# Altium schematic symbol library C.SchLib: 38 symbols
Pins are listed as number, name and electrical type; pins without a type are passive.

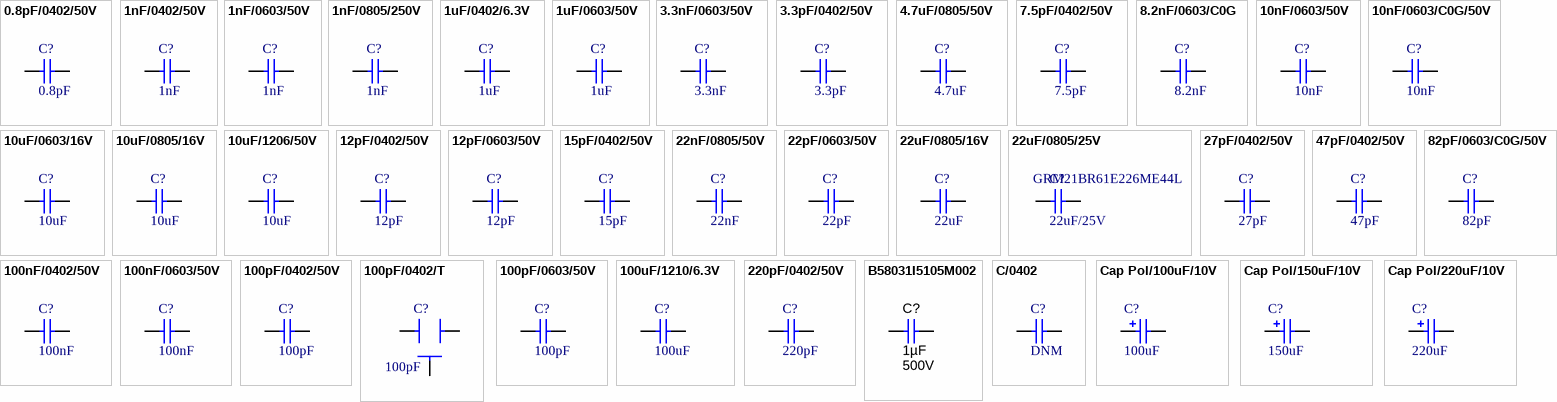
[diagram p0: symbols 0.8pF/0402/50V to Cap Pol/220uF/10V]

## 0.8pF/0402/50V
designator C?, comment 0.8pF
精度 ±0.1pF / 容值 0.8pF / 额定电压 50V / 温漂系数（介质材料) C0G; Manufacturer: FH(风华); A_Manufacturer: 元六; Code: 0402CG0R8B500NT; A_Code: J CC41Q-0402-BC-50V-0R8-B; CompType: Capacitor; A_ComType: 一类电容; DistributorCode: C285068; Package: 0402
footprint S0402C
pins: 1, 2

## 1nF/0402/50V
designator C?, comment 1nF
精度 ±5% / 容值 1nF / 额定电压 50V / 温漂系数（介质材料) C0G; Manufacturer: FH(风华); A_Manufacturer: 元六; Code: 0402CG102J500NT; A_Code: J CC41-0402-CG-50V-102J; CompType: Capacitor; A_ComType: 一类电容; DistributorCode: C53547; Package: 0402
footprint S0402C
pins: 1, 2

## 1nF/0603/50V
designator C?, comment 1nF
精度 ±5% / 容值 1nF / 额定电压 50V / 温漂系数（介质材料) C0G; Manufacturer: FH(风华); A_Manufacturer: 元六; Code: 0603CG102J500NT; A_Code: J CC41-0603-CG-50V-102J; CompType: Capacitor; DistributorCode: C1636; Package: 0603
footprint S0603C
pins: 1, 2

## 1nF/0805/250V
designator C?, comment 1nF
精度 ±10% / 容值 1nF / 额定电压 250V / 温漂系数（介质材料) X7R; Manufacturer: FH(风华); A_Manufacturer: 元六; Code: 0805B102K251NT; CompType: Capacitor; A_ComType: 二类电容; Package: 0805; DistributorCode: C285058
footprint S0603C
simulation model CAP (Capacitor)
signal-integrity model Cap
footprint S0805C
pins: 1, 2

## 1uF/0402/6.3V
designator C?, comment 1uF
精度 ±10% / 容值 1uF / 额定电压 6.3V / 温漂系数（介质材料) X5R /; Manufacturer: FH(风华); A_Manufacturer: 元六; Code: 0402X105K6R3NT; A_Code: J CT41-0402-2R2-6V3-105M; CompType: Capacitor; A_ComType: 二类电容; DistributorCode: C142376; Package: 0402
footprint S0402C
pins: 1, 2

## 1uF/0603/50V
designator C?, comment 1uF
精度 ±10% / 容值 1uF / 额定电压 50V / 温漂系数（介质材料) X7R; Manufacturer: FH(风华); A_Manufacturer: 元六; Code: 0603B105K500NT; A_Code: J CT41-0603-2R1-50V-105M; CompType: Capacitor; A_ComType: 二类电容; DistributorCode: C90540; Package: 0603
footprint S0402C
footprint S0603C
pins: 1, 2

## 3.3nF/0603/50V
designator C?, comment 3.3nF
精度 ±5% / 容值 3.3nF / 额定电压 50V / 温漂系数（介质材料) C0G; Manufacturer: FH(风华); A_Manufacturer: 元六; Code: 0603CG332J500NT; A_Code: J CC41-0603-CG-50V-332J; CompType: Capacitor; DistributorCode: C190576; Package: 0603
footprint S0603C
pins: 1, 2

## 3.3pF/0402/50V
designator C?, comment 3.3pF
精度 ±0.1pF / 容值 3.3pF / 额定电压 50V / 温漂系数（介质材料) C0G; Manufacturer: FH(风华); A_Manufacturer: 元六; Code: 0402CG3R3B500NT; A_Code: J CC41-0402-CG-50V-3R3C; CompType: Capacitor; A_ComType: 一类电容; DistributorCode: C285083; Package: 0402
footprint S0402C
pins: 1, 2

## 4.7uF/0805/50V
designator C?, comment 4.7uF
精度 ±20% / 容值 4.7uF / 额定电压 50V / 温漂系数（介质材料) Y5V /; Manufacturer: FH(风华); A_Manufacturer: 元六; Code: 0805F475M500NT; CompType: Capacitor; A_Code: J CT41-0805-2R2-50V-475M; A_ComType: 二类电容; Package: 0805; DistributorCode: C215908
footprint S0805C
simulation model CAP (Capacitor)
signal-integrity model Cap
pins: 1, 2

## 7.5pF/0402/50V
designator C?, comment 7.5pF
精度 ±0.25pF / 容值 7.5pF / 额定电压 50V / 温漂系数（介质材料) C0G; Manufacturer: FH(风华); A_Manufacturer: 元六; Code: 0402CG7R5C500NT; A_Code: J CC41Q-0402-BC-50V-7R5-C; CompType: Capacitor; A_ComType: 一类电容; DistributorCode: C43514; Package: 0402
footprint S0402C
pins: 1, 2

## 8.2nF/0603/C0G
designator C?, comment 8.2nF
精度 ±5% / 容值 8.2nF / 额定电压 50V / 温漂系数（介质材料) C0G; Manufacturer: TDK; A_Manufacturer: 元六; Code: C1608C0G1H822JT000N; A_Code: J CC41-0603-CG-50V-822J; CompType: Capacitor; DistributorCode: C445716; Package: 0603
footprint S0603C
pins: 1, 2

## 10nF/0603/50V
designator C?, comment 10nF
精度 ±10% / 容值 10nF / 额定电压 50V / 温漂系数（介质材料) X7R; Manufacturer: FH(风华); A_Manufacturer: 元六; Code: 0603B103K500NT; A_Code: J CT41-0603-2R1-50V-103K; CompType: Capacitor; A_ComType: 二类电容; Package: 0603; DistributorCode: C57112
footprint S0603C
pins: 1, 2

## 10nF/0603/C0G/50V
designator C?, comment 10nF
精度 ±5% / 容值 10nF / 额定电压 50V / 温漂系数（介质材料) C0G; Manufacturer: FH(风华); A_Manufacturer: 元六; Code: 0603CG103J500NT; A_Code: J CC41-0603-CG-50V-103J; CompType: Capacitor; DistributorCode: C82282; Package: 0603
footprint S0603C
pins: 1, 2

## 10uF/0603/16V
designator C?, comment 10uF
精度 ±10% / 容值 10uF / 额定电压 16V / 温漂系数（介质材料) X5R; Manufacturer: FH(风华); A_Manufacturer: 元六; Code: 0603X106K160NT; CompType: Capacitor; A_Code: J CT41-0603-2R2-16V-106M; A_ComType: 二类电容; Package: 0603; DistributorCode: C70225
footprint S0603C
simulation model CAP (Capacitor)
signal-integrity model Cap
pins: 1, 2

## 10uF/0805/16V
designator C?, comment 10uF
精度 ±10% / 容值 10uF / 额定电压 16V / 温漂系数（介质材料) X7R; Manufacturer: FH(风华); A_Manufacturer: 元六; Code: 0805B106K160NT; CompType: Capacitor; A_Code: J CT41-0805-2R2-16V-106M; A_ComType: 二类电容; Package: 0805; DistributorCode: C92341
footprint S0603C
simulation model CAP (Capacitor)
signal-integrity model Cap
footprint S0805C
pins: 1, 2

## 10uF/1206/50V
designator C?, comment 10uF
精度 ±10% / 容值 10uF / 额定电压 50V / 温漂系数（介质材料) X5R; Manufacturer: SAMSUNG(三星); A_Manufacturer: 元六; Code: CL31A106KBHNNNE; CompType: Capacitor; A_ComType: 二类电容; Package: 1206; DistributorCode: C13585; A_Code: -
footprint S0603C
simulation model CAP (Capacitor)
signal-integrity model Cap
pins: 1, 2

## 12pF/0402/50V
designator C?, comment 12pF
精度 ±1% / 容值 12pF / 额定电压 50V / 温漂系数（介质材料) C0G; Manufacturer: FH(风华); A_Manufacturer: 元六; Code: 0402CG120F500NT; A_Code: J CC41-0402-CG-50V-120J; CompType: Capacitor; A_ComType: 一类电容; DistributorCode: C182477; Package: 0402
footprint S0402C
pins: 1, 2

## 12pF/0603/50V
designator C?, comment 12pF
精度 ±5% / 容值 12pF / 额定电压 50V / 温漂系数（介质材料) C0G; Manufacturer: FH(风华); A_Manufacturer: 元六; Code: 0603CG120J500NT; A_Code: J CC41-0603-CG-50V-120J; CompType: Capacitor; A_ComType: 一类电容; DistributorCode: C1642; Package: 0603
footprint S0603C
pins: 1, 2

## 15pF/0402/50V
designator C?, comment 15pF
精度 ±1% / 容值 15pF / 额定电压 50V / 温漂系数（介质材料) C0G; Manufacturer: FH(风华); A_Manufacturer: 元六; Code: 0402CG150F500NT; A_Code: J CC41-0402-CG-50V-150J; CompType: Capacitor; A_ComType: 一类电容; DistributorCode: C285151; Package: 0402
footprint S0402C
pins: 1, 2

## 22nF/0805/50V
designator C?, comment 22nF
精度 ±5% / 容值 22nF / 额定电压 50V / 温漂系数（介质材料) C0G; Manufacturer: TDK; A_Manufacturer: 元六; Code: C2012C0G1H223JT000N; CompType: Capacitor; A_Code: J CC41-0805-CG-50V-223J; A_ComType: 一类电容; Package: 0805; DistributorCode: C342593
footprint S0603C
simulation model CAP (Capacitor)
signal-integrity model Cap
footprint S0805C
pins: 1, 2

## 22pF/0603/50V
designator C?, comment 22pF
精度 ±5% / 容值 22pF / 额定电压 50V / 温漂系数（介质材料) C0G; Manufacturer: FH(风华); A_Manufacturer: 元六; Code: 0603CG220J500NT; A_Code: J CC41-0603-CG-50V-220J; CompType: Capacitor; A_ComType: 一类电容; DistributorCode: C91701; Package: 0603
footprint S0603C
pins: 1, 2

## 22uF/0805/16V
designator C?, comment 22uF
精度 ±20% / 容值 22uF / 额定电压 16V / 温漂系数（介质材料) X5R; Manufacturer: FH(风华); A_Manufacturer: 元六; Code: 0805X226M160NT; A_Code: J CT41-0805-2R2-16V-226M; CompType: Capacitor; A_ComType: 二类电容; DistributorCode: C129302; Package: 0805
footprint S0805C
pins: 1, 2

## 22uF/0805/25V
designator C?, comment 22uF/25V  Code: GRM21BR61E226ME44L
精度 ±20% / 容值 22uF / 额定电压 25V / 温漂系数（介质材料) X5R; Manufacturer: muRata(村田); A_Manufacturer: 元六; A_Code: J CT41-0805-2R2-25V-226M; CompType: Capacitor; A_ComType: 二类电容; DistributorCode: C86816; Package: 0805
footprint S0805C
pins: 1, 2

## 27pF/0402/50V
designator C?, comment 27pF
精度 ±2% / 容值 27pF / 额定电压 50V / 温漂系数（介质材料) C0G; Manufacturer: FH(风华); A_Manufacturer: 元六; Code: 0402CG270G500NT; A_Code: J CC41-0402-CG-50V-270J; CompType: Capacitor; A_ComType: 一类电容; DistributorCode: C501824; Package: 0402
footprint S0402C
pins: 1, 2

## 47pF/0402/50V
designator C?, comment 47pF
精度 ±2% / 容值 47pF / 额定电压 50V / 温漂系数（介质材料) C0G; Manufacturer: FH(风华); A_Manufacturer: 元六; Code: 0402CG470G500NT; A_Code: J CC41-0402-CG-50V-470J; CompType: Capacitor; A_ComType: 一类电容; DistributorCode: C285090; Package: 0402
footprint S0402C
pins: 1, 2

## 82pF/0603/C0G/50V
designator C?, comment 82pF
精度 ±5% / 容值 82pF / 额定电压 50V / 温漂系数（介质材料) C0G; Manufacturer: FH(风华); A_Manufacturer: 元六; Code: 0603CG820J500NT; A_Code: J CC41-0603-CG-50V-820J; CompType: Capacitor; DistributorCode: C1683; Package: 0603
footprint S0603C
pins: 1, 2

## 100nF/0402/50V
designator C?, comment 100nF
精度 ±10% / 容值 100nF / 额定电压 50V / 温漂系数（介质材料) X7R; Manufacturer: FH(风华); A_Manufacturer: 元六; Code: 0402B104K500NT; A_Code: J CT41-0402-2R1-50V-104M; CompType: Capacitor; A_ComType: 二类电容; DistributorCode: C110251; Package: 0402
footprint S0402C
pins: 1, 2

## 100nF/0603/50V
designator C?, comment 100nF
精度 ±10% / 容值 100nF / 额定电压 50V / 温漂系数（介质材料) X7R; Manufacturer: FH(风华); A_Manufacturer: 元六; Code: 0603B104K500NT; A_Code: J CT41-0603-2R1-50V-104K; CompType: Capacitor; A_ComType: 二类电容; DistributorCode: C30926; Package: 0603
footprint S0603C
pins: 1, 2

## 100pF/0402/50V
designator C?, comment 100pF
精度 ±5% / 容值 100pF / 额定电压 50V / 温漂系数（介质材料) C0G; Manufacturer: FH(风华); A_Manufacturer: 元六; Code: 0402CG101J500NT; A_Code: J CC41-0402-CG-50V-101J; CompType: Capacitor; A_ComType: 一类电容; DistributorCode: C1546; Package: 0402
footprint S0402C
pins: 1, 2

## 100pF/0402/T
designator C?, comment 100pF
精度 ±5% / 容值 100pF / 额定电压 50V / 温漂系数（介质材料) C0G; Manufacturer: FH(风华); A_Manufacturer: 元六; Code: 0402CG101J500NT; A_Code: J CC41-0402-CG-50V-101J; A_ComType: 一类电容; CompType: Capacitor; DistributorCode: C1546; Package: 0402
footprint ST0402C
pins: 1, 2, 3

## 100pF/0603/50V
designator C?, comment 100pF
精度 ±5% / 容值 100pF / 额定电压 50V / 温漂系数（介质材料) C0G; Manufacturer: FH(风华); A_Manufacturer: 元六; Code: 0603CG101J500NT; A_Code: J CC41-0603-CG-50V-101J; CompType: Capacitor; A_ComType: 一类电容; DistributorCode: C1635; Package: 0603
footprint S0603C
pins: 1, 2

## 100uF/1210/6.3V
designator C?, comment 100uF
精度 ±20% / 容值 100uF / 额定电压 6.3V / 温漂系数（介质材料) X5R; Manufacturer: muRata(村田); A_Manufacturer: 元六; Code: GRM32ER60J107ME20L; A_Code: J CT41-1210-2R2-10V-107M; CompType: Capacitor; DistributorCode: C88154; Package: 1210
footprint S1210C (Footprint not found)
pins: 1, 2

## 220pF/0402/50V
designator C?, comment 220pF
精度 ±5% / 容值 220pF / 额定电压 50V / 温漂系数（介质材料) C0G; Manufacturer: FH(风华); A_Manufacturer: 元六; Code: 0402CG221J500NT; A_Code: J CC41-0402-CG-50V-221J; CompType: Capacitor; A_ComType: 一类电容; DistributorCode: C39122; Package: 0402
footprint S0402C1
pins: 1, 2

## B58031I5105M002
designator C?, comment ValueDisplayed: 1µF  Value2: 500V  (hidden comment: B58031I5105M062)
CAP, CERM, 1 µF, 500 V, +/- 20%, B58031, AEC-Q200 Grade 0, 6.84x7.85mm; Manufacturer: TDK; Polarized: N; CompType: Capacitor; Value: 1uF; U/M: EA; Cap_F: 0.000001; Tolerance_%: 20; Value1: Unknown; VDC_V: 500; IRMS_A: 7.5; TaMin_C: -40; TaMax_C: 150; Cap_Case: 10.84x7.85x4.5mm; SizeArea_mm2: 85.094; SizeAreaWB_mm2: 126.474; SizeX_mm: 10.84; SizeY_mm: 7.85; SizeZ_mm: 4.5; AEC Category: Q200; AEC Qualified: Y; AEC Grade: 0; SymbolVersion: 2008-07-09; PartNumber: B58031I5105M062; PackageReference: 6.84x7.85mm; RoHS: E; MountType: SMT; Technology: Ceramic; TempCo: B58031; Published: 2008-06-19; Publisher: Texas Instruments; LatestRevisionDate: 2017-01-04; ComponentLink1Description: Datasheet link; ComponentLink1URL: https://en.tdk.eu/inf/20/10/ds/B58031_LP.pdf; Supplier 1: Digi-Key; Supplier Part Number 1: 495-6707-ND; Supplier 2: Mouser; Supplier Part Number 2: 871-B58031I5105M062; Supplier 3: Farnell; Supplier Part Number 3: 2470604
signal-integrity model Cap
simulation model Cap
footprint B58031I_1084x785x450
pins: 1, 2

## C/0402
designator C?, comment DNM
Manufacturer: FH(风华); A_Manufacturer: 元六; CompType: Capacitor; Code: -; DistributorCode: -; Package: 0402; A_Code: -; A_ComType: -
footprint S0402C
pins: 1, 2

## Cap Pol/100uF/10V
designator C?, comment 100uF
钽电容 / 精度 ±10% / 容值 100uF / 额定电压 10V / ESR串联电阻 - / 工作温度 -55℃ ~ +125℃; Manufacturer: AVX; Code: TAJD107K010RNJV; CompType: Cap Pol; A_Code: 请补充; DistributorCode: C282489; Package: CASE-D_7343; A_ComType: 请补充; A_Manufacturer: 请补充
footprint CAPMP7343X430A2N
simulation model CAP (Capacitor)
signal-integrity model Cap Pol
pins: 1, 2
1 alternate drawing of the same symbol

## Cap Pol/150uF/10V
designator C?, comment 150uF
钽电容 / 精度 ±10% / 容值 150uF / 额定电压 10V / ESR串联电阻 900 mΩ @ 100kHz / 工作温度 -55℃ ~ +125℃; Manufacturer: AVX; Code: TAJD157K010RNJ; CompType: Cap Pol; A_Code: 请补充; DistributorCode: C127980; Package: CASE-D_7343; A_ComType: 请补充; A_Manufacturer: 请补充
footprint CAPMP7343X430A2N
simulation model CAP (Capacitor)
signal-integrity model Cap Pol
pins: 1, 2
1 alternate drawing of the same symbol

## Cap Pol/220uF/10V
designator C?, comment 220uF
电容：220μF / 容差：±10% / 电压 - 额定：10V / ESR（等效串联电阻）：500 毫欧 / 类型：模制 / 工作温度：-55°C ~ 125°C / 安装类型：表面贴装 / 封装/外壳：2917（7343 公制） / 大小/尺寸：0.287" 长 x 0.169" 宽（7.30mm x 4.30mm） / 高度 - 安装（最大值）：0.122"（3.10mm） / 制造商尺寸代码：D / 特性：通用; Manufacturer: AVX; Code: TAJD227K010RNJ; CompType: Cap Pol; A_Code: 请补充; DistributorCode: C8024; Package: CASE-D_7343; A_ComType: 请补充; A_Manufacturer: 请补充
footprint CAPMP7343X430A2N
simulation model CAP (Capacitor)
signal-integrity model Cap Pol
pins: 1, 2
1 alternate drawing of the same symbol